# Altium schematic symbol library D.Schlib: 1 symbol
Pins are listed as number, name and electrical type; pins without a type are passive.

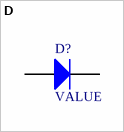
[diagram p0: symbol D]

## D
designator D?, comment Diode  (value not drawn)
VALUE: VALUE
pins: 1, 2